# Altium schematic symbol library OP_Amps.SchLib: 3 symbols
Pins are listed as number, name and electrical type; pins without a type are passive.

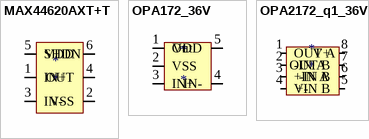
[diagram p0: symbols MAX44620AXT+T to OPA2172_q1_36V]

## MAX44620AXT+T
designator *
Operationsverstärker 1.8V, 15MHz Low-Offs et, Low-Power, Rail
footprint MAX44260_ATX+T (Operationsverstärker 1.8V, 15MHz Low-Offs et, Low-Power, Rail)
pins: 1 IN+, 2 VSS, 3 IN-, 4 OUT, 5 SHDN, 6 VDD

## OPA172_36V
designator *
OPAx172 36-V, Single-Supply, 10-MHz, Rail-to-Rail Output Operational Amplifiers
footprint OPA172_36V (OPAx172 36-V, Single-Supply, 10-MHz, Rail-to-Rail Output Operational Amplifiers)
footprint OPA172_36V_SC70-5 (36-V, Single-Supply, 10-MHz, Rail-to-Rail Output Operational Amplifiers); pin to pad 1>4 3>1 4>3
pins: 1 Out, 2 VSS, 3 IN+, 4 IN-, 5 VDD

## OPA2172_q1_36V
designator *
Single-Supply, 10-MHz, R2R Output AMG OP Amp
footprint OPA2172_q1_36V (Single-Supply, 10-MHz, R2R Output AMG OP Amp)
pins: 1 OUT A, 2 -IN A, 3 +IN A, 4 V-, 5 +IN B, 6 -IN B, 7 OUT B, 8 V+